# EAGLE library part AVR-PDI-6PIN-HEADER (library Synapseware-Connectors)
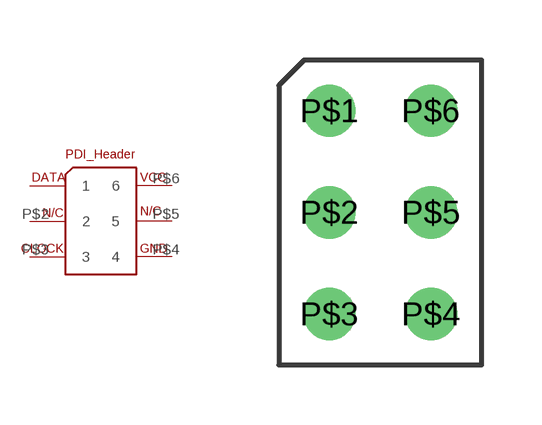
[diagram p0: symbol with the pads of 6-PIN-HEADER; footprint 6-PIN-HEADER]

Designator prefix -

## AVR-PDI-6PIN-HEADER  [6-PIN-HEADER]
P$1  1
P$2  2
P$3  3
P$4  4
P$5  5
P$6  6

## Footprint 6-PIN-HEADER (pad centres in mm)
drill 0.8: P$1 -1.27,2.54; P$2 -1.27,0; P$3 -1.27,-2.54; P$4 1.27,-2.54; P$5 1.27,0; P$6 1.27,2.54